# EAGLE library part ROTARY_SW (library mylibrary)
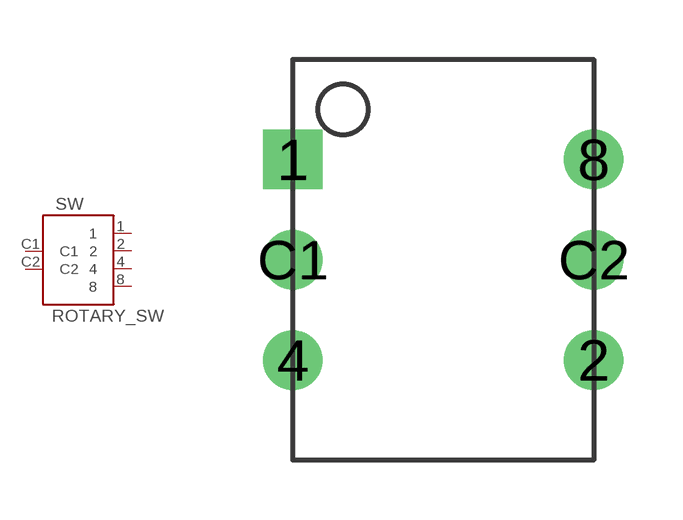
[diagram p3: symbol with the pads of ROTARY_SW; footprint ROTARY_SW]

Designator prefix SW

## ROTARY_SW-10 (RANGE: 0-9), ROTARY_SW-16 (RANGE: 0-F)  [ROTARY_SW]
1  1
2  2
4  4
8  8
C1  C1
C2  C2

## Footprint ROTARY_SW (pad centres in mm)
drill 1 square: 1 0,5.08
drill 1: 2 7.62,0; 4 0,0; 8 7.62,5.08; C1 0,2.54; C2 7.62,2.54